# EAGLE library part TEXAS_INSTRUMENTS-LDO-TPS73512DRBR (library Module_Regulators)
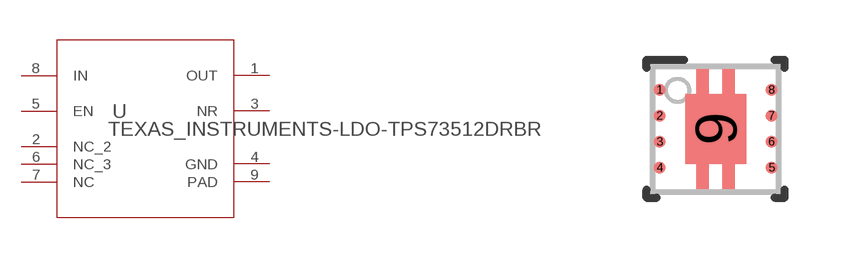
[diagram p6: symbol with the pads of TEXAS_INSTRUMENTS-LDO-TPS73512DRBR; footprint TEXAS_INSTRUMENTS-LDO-TPS73512DRBR]

Designator prefix U

## TEXAS_INSTRUMENTS-LDO-TPS73512DRBR (ALTERNATEPARTNUMBER: TPS73512DRBT; APPLICATION_BUILDNUMBER: *; COMPTYPE: IC; MANUFACTURER: Texas Instruments; MOUNTTYPE: SMT; PACKAGEREFERENCE: DRB0008A; PARTNUMBER: TPS73512DRBR; PIN_COUNT: 9; REFDES: RefDes; ROHS: Y; TYPE: TYPE; VALUE: Value)  [TEXAS_INSTRUMENTS-LDO-TPS73512DRBR]
1  OUT  pwr
2  NC_2  pas
3  NR  pas
4  GND  pwr
5  EN  in
6  NC_3  pas
7  NC  pas
8  IN  pwr
9  PAD  pwr

## Footprint TEXAS_INSTRUMENTS-LDO-TPS73512DRBR (pad centres in mm)
smd 0.3 x 0.3: 1 -1.4,0.975; 2 -1.4,0.325; 3 -1.4,-0.325; 4 -1.4,-0.975; 5 1.4,-0.975; 6 1.4,-0.325; 7 1.4,0.325; 8 1.4,0.975
smd 1.5 x 1.75: 9 0,0